# EAGLE library part CD4013 (library LARS_409_MC)
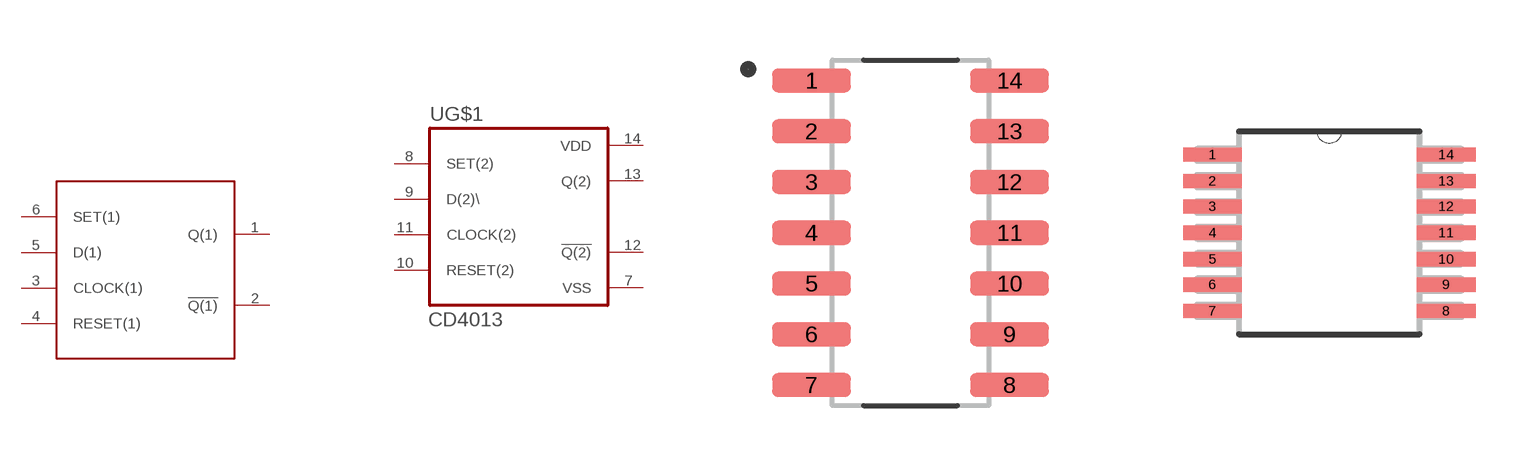
[diagram p8: symbol with the pads of SOIC-14; footprints SOIC-14, TSSOP-14]

Designator prefix U; gates G$1=CD4013/2(2) G$2=CD4013/2

## CD4013  [SOIC-14]
1  G$2:Q(1)  out
2  G$2:!Q(1)  out
3  G$2:CLOCK(1)  in
4  G$2:RESET(1)  in
5  G$2:D(1)  in
6  G$2:SET(1)  in
7  G$1:VSS  pwr
8  G$1:SET(2)  in
9  G$1:D(2)\  in
10  G$1:RESET(2)  in
11  G$1:CLOCK(2)  in
12  G$1:!Q(2)  out
13  G$1:Q(2)  out
14  G$1:VDD  pwr

## CD4013TSSOP  [TSSOP-14]
Pads as for SOIC-14

## Footprint SOIC-14 (pad centres in mm)
smd 1.97 x 0.6: 1 -2.475,3.81; 2 -2.475,2.54; 3 -2.475,1.27; 4 -2.475,0; 5 -2.475,-1.27; 6 -2.475,-2.54; 7 -2.475,-3.81; 8 2.475,-3.81; 9 2.475,-2.54; 10 2.475,-1.27; 11 2.475,0; 12 2.475,1.27; 13 2.475,2.54; 14 2.475,3.81

## Footprint TSSOP-14 (pad centres in mm)
smd 1.473 x 0.356: 1 -2.921,1.956; 2 -2.921,1.295; 3 -2.921,0.66; 4 -2.921,0; 5 -2.921,-0.66; 6 -2.921,-1.295; 7 -2.921,-1.956; 8 2.921,-1.956; 9 2.921,-1.295; 10 2.921,-0.66; 11 2.921,0; 12 2.921,0.66; 13 2.921,1.295; 14 2.921,1.956